# Altium schematic symbol library LTST-C170GKT.SchLib: 2 symbols
Pins are listed as number, name and electrical type; pins without a type are passive.

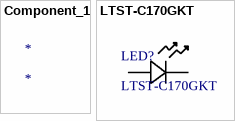
[diagram p0: symbols Component_1 to LTST-C170GKT]

## Component_1
designator *

## LTST-C170GKT
designator LED?
No Description Available; Mfr_Name: LITE-ON; Type: DEV; Copyright: Copyright (C) 2022 Ultra Librarian. All rights reserved.; Manufacturer_Part_Number: LTST-C170GKT; Digi-Key_Part_Number_1: 160-1179-2-ND; Digi-Key_Part_Number_2: 160-1179-1-ND; Digi-Key_Part_Number_3: 160-1179-6-ND; RefDes: RefDes
footprint LED_LTST-C170GKT_LTO
pins: 1, 2